# EAGLE library part MCP32S17 (library HyTechDevices)
IO Expander 16 Channel Datasheet <https://www.mouser.com/datasheet/2/268/20001952C-1129816.pdf>
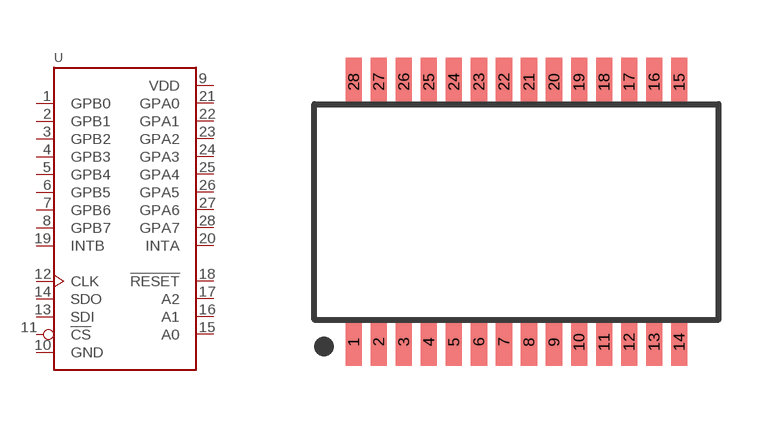
[diagram p24: symbol with the pads of SSOP-28; footprint SSOP-28]

Designator prefix U

## MCP32S17 (DKPN: MCP23S17T-E/SSCT-ND; MANUFACTURER: Microchip Technology; MOPN: 579-MCP23S17T-E/SS; MPN: MCP23S17T-E/SS)  [SSOP-28]
1  GPB0
2  GPB1
3  GPB2
4  GPB3
5  GPB4
6  GPB5
7  GPB6
8  GPB7
9  VDD  pwr
10  GND  pwr
11  !CS  in
12  CLK  in
13  SDI  in
14  SDO  out
15  A0  in
16  A1  in
17  A2  in
18  !RESET  in
19  INTB  out
20  INTA  out
21  GPA0
22  GPA1
23  GPA2
24  GPA3
25  GPA4
26  GPA5
27  GPA6
28  GPA7

## Footprint SSOP-28 (pad centres in mm)
SSOP-28 Datasheet <https://www.analog.com/media/en/package-pcb-resources/package/pkg_pdf/ltc-legacy-ssop/SSOP_28_05-08-1640.pdf>
smd 0.42 x 1.25: 1 -4.225,-3.375; 2 -3.575,-3.375; 3 -2.925,-3.375; 4 -2.275,-3.375; 5 -1.625,-3.375; 6 -0.975,-3.375; 7 -0.325,-3.375; 8 0.325,-3.375; 9 0.975,-3.375; 10 1.625,-3.375; 11 2.275,-3.375; 12 2.925,-3.375; 13 3.575,-3.375; 14 4.225,-3.375; 15 4.225,3.375; 16 3.575,3.375; 17 2.925,3.375; 18 2.275,3.375; 19 1.625,3.375; 20 0.975,3.375; 21 0.325,3.375; 22 -0.325,3.375; 23 -0.975,3.375; 24 -1.625,3.375; 25 -2.275,3.375; 26 -2.925,3.375; 27 -3.575,3.375; 28 -4.225,3.375